# Altium footprint library PcbLib.PcbLib: 43 footprints (part 1 of 3)
Each footprint in its own frame and in the unit in brackets; x right, y up, seen from the top. Pads: shape width x height; smd on the part's side, far side on the other; paste and mask are expansions set on the pad; w line width, h text height; cw(c..) or ccw(c..) is an arc to the next point about the centre after c.
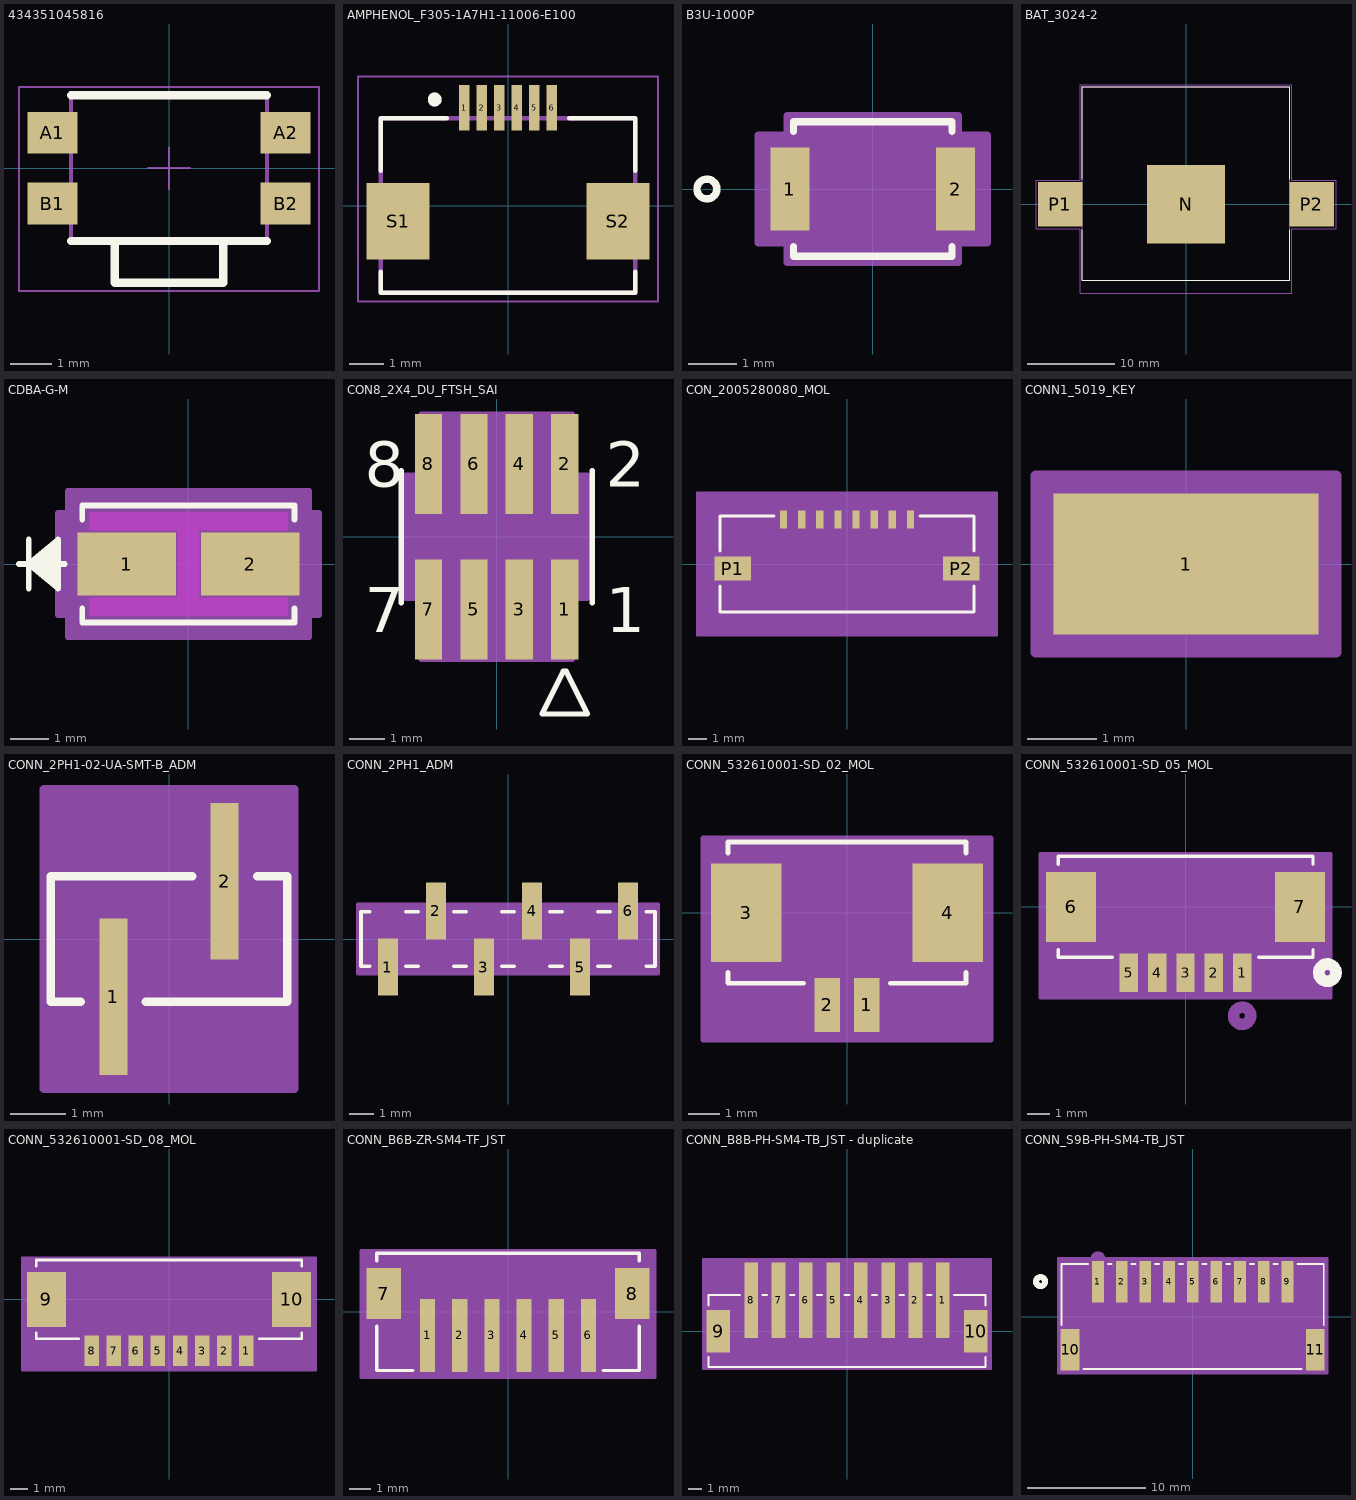
[diagram p0: the footprints below, top view; thin cyan lines are the x and y axes]

## 434351045816 [mm] "3.5x4.7 mm SMD side push"
height 1.65
pads (4):
  rect 1.2x1 smd: A1(-2.8,0.85) A2(2.8,0.85) B1(-2.8,-0.85) B2(2.8,-0.85)
Top Overlay:
  lines w0.2: -2.35,-1.75 2.35,-1.75 ; -2.35,1.75 2.35,1.75 ; -1.3,-1.75 -1.3,-2.75 1.3,-2.75 1.3,-1.75
Top 3D Body:
  lines w0.1: -2.35,-1.15 -3.2,-1.15 -3.2,-0.55 -2.35,-0.55 ; -2.35,0.55 -3.2,0.55 -3.2,1.15 -2.35,1.15 ; -1.3,-1.75 -1.3,-2.75 1.3,-2.75 1.3,-1.75 ; 2.35,-1.15 3.2,-1.15 3.2,-0.55 2.35,-0.55 ; 2.35,0.55 3.2,0.55 3.2,1.15 2.35,1.15 ; -2.35,-1.75 -2.35,1.75 2.35,1.75 2.35,-1.75 -2.35,-1.75
Top Courtyard:
  lines w0.05: -0.5,0 0.5,0 ; 0,-0.5 0,0.5 ; -3.6,-2.95 -3.6,1.95 3.6,1.95 3.6,-2.95 -3.6,-2.95
Top Component Outline:
  lines w0.1: -2.35,-1.15 -3.2,-1.15 -3.2,-0.55 -2.35,-0.55 ; -2.35,0.55 -3.2,0.55 -3.2,1.15 -2.35,1.15 ; -1.3,-1.75 -1.3,-2.75 1.3,-2.75 1.3,-1.75 ; 2.35,-1.15 3.2,-1.15 3.2,-0.55 2.35,-0.55 ; 2.35,0.55 3.2,0.55 3.2,1.15 2.35,1.15 ; -2.35,-1.75 2.35,-1.75 2.35,1.75 -2.35,1.75 -2.35,-1.75
3D body "4343x10458xx.stp": height 1.65, standoff 0, extent -3.2,-2.75 3.2,1.75

## AMPHENOL_F305-1A7H1-11006-E100 [mm]
height 3.95
pads (8):
  rect 0.3x1.3 smd mask+0.05: 1(-1.25,2.8) 2(-0.75,2.8) 3(-0.25,2.8) 4(0.25,2.8) 5(0.75,2.8) 6(1.25,2.8)
  rect 1.8x2.2 smd mask+0.05: S1(-3.15,-0.45) S2(3.15,-0.45)
Top Overlay:
  circle w0.2: c-2.1,3.04 r0.1
  lines w0.127: -3.65,-1.9 -3.65,-2.5 3.65,-2.5 3.65,-1.9 ; -3.65,1 -3.65,2.5 -1.75,2.5 ; 1.75,2.5 3.65,2.5 3.65,1
Mechanical 13:
  circle w0.2: c-2.1,3.04 r0.1
  lines w0.127: -3.65,-2.5 3.65,-2.5 3.65,2.5 -3.65,2.5 -3.65,-2.5
Mechanical 15:
  lines w0.05: -4.3,-2.75 4.3,-2.75 4.3,3.7 -4.3,3.7 -4.3,-2.75
3D body "step_temp.STEP": height 1.95, standoff -0.05, extent -3.579,-2.617 3.721,3.083

## B3U-1000P [mm]
pads (2):
  rect 0.8x1.7 smd paste+0 mask+0: 1(-1.7,0) 2(1.7,0)
Top Overlay:
  circle w0.152: c-3.405,0 r0.203
  lines w0.152: -1.627,-1.183 -1.627,-1.377 1.627,-1.377 1.627,-1.183 ; -1.627,1.183 -1.627,1.377 1.627,1.377 1.627,1.183
Mechanical 13:
  circle w0: c0,0 r0.75
  lines w0.025: -1.7,0 -1.5,0 -1.7,0 ; -1.5,-1.25 1.5,-1.25 1.5,1.25 -1.5,1.25 -1.5,-1.25 ; 1.5,0 1.7,0 1.5,0
Mechanical 15:
  region: -1.754,-1.104 -2.354,-1.104 -2.354,1.104 -1.754,1.104 -1.754,1.504 1.754,1.504 1.754,1.104 2.354,1.104 2.354,-1.104 1.754,-1.104 1.754,-1.504 -1.754,-1.504
  lines w0.152: -2.354,-1.104 -2.354,1.104 -1.754,1.104 -1.754,1.504 1.754,1.504 1.754,1.104 2.354,1.104 2.354,-1.104 1.754,-1.104 1.754,-1.504 -1.754,-1.504 -1.754,-1.104 -2.354,-1.104
3D body "b3u-1000p.stp": height 1.6, standoff 0, extent -2,-1.27 2,1.23

## BAT_3024-2 [mm]
height 6.35
pads (3):
  rect 9x9 smd paste-3: N(0,0)
  rect 5.08x5.08 smd: P1(-14.465,0) P2(14.465,0)
Top Overlay:
  lines w0.127: -11.925,-2.9 -11.925,-8.75 11.925,-8.75 11.925,-2.9 ; -11.925,2.9 -11.925,13.52 11.925,13.52 11.925,2.9
Mechanical 13:
  lines w0.127: -11.925,-8.75 -11.925,13.52 11.925,13.52 11.925,-8.75 -11.925,-8.75
Mechanical 15:
  lines w0.05: -17.255,-2.79 -12.175,-2.79 -12.175,-10.25 12.175,-10.25 12.175,-2.79 17.255,-2.79 17.255,2.79 12.175,2.79 12.175,13.77 -12.175,13.77 -12.175,2.79 -17.255,2.79 -17.255,-2.79

## CDBA-G-M [mil]
pads (2):
  rect 101x65 smd paste+0 mask+0: 1(-63.5,0) 2(63.5,0)
Top Layer keep-out:
  region: -11,-34.5 -11,34.5 11,34.5 11,-34.5
  region: -102,34.5 -102,53 102,53 102,34.5
  region: -102,-53 -102,-34.5 102,-34.5 102,-53
Top Overlay:
  lines w6: -174,0 -127.1,0 ; -164,-25 -164,25 ; -134,-20 -164,0 ; -134,-15 -164,0 ; -134,-10 -164,0 ; -134,-5 -164,0 ; -134,5 -164,0 ; -134,10 -164,0 ; -134,15 -164,0 ; -134,20 -164,0 ; -109,-45.6 -109,-60 109,-60 109,-45.6 ; -109,45.6 -109,60 109,60 109,45.6 ; -164,0 -134,25 -134,-25 -164,0
Keep-Out Layer:
  region: -11,-34.5 -11,34.5 11,34.5 11,-34.5
Mechanical 13:
  lines w1: -174,0 -124,0 ; -164,-25 -164,25 ; -134,-20 -164,0 ; -134,-15 -164,0 ; -134,-10 -164,0 ; -134,-5 -164,0 ; -134,5 -164,0 ; -134,10 -164,0 ; -134,15 -164,0 ; -134,20 -164,0 ; -164,0 -134,25 -134,-25 -164,0 ; -104,-55 104,-55 104,55 -104,55 -104,-55
Mechanical 15:
  region: -124,-52.5 -134,-52.5 -134,52.5 -124,52.5 -124,75 124,75 124,52.5 134,52.5 134,-52.5 124,-52.5 124,-75 -124,-75
  lines w6: -134,-52.5 -134,52.5 -124,52.5 -124,75 124,75 124,52.5 134,52.5 134,-52.5 124,-52.5 124,-75 -124,-75 -124,-52.5 -134,-52.5
3D body "CDBA-G.step": height 92.01, standoff 0, extent -104.02,-55 104.02,55

## CON8_2X4_DU_FTSH_SAI [mil]
pads (8):
  rect 30x110 smd paste+0 mask+0: 1(75,-80) 2(75,80) 3(25,-80) 4(25,80) 5(-25,-80) 6(-25,80) 7(-75,-80) 8(-75,80)
Top Overlay:
  lines w6: -105,-72.5 -105,72.5 ; 73.5,-148.1 50,-195.1 100,-195.1 76.5,-148.1 ; 105,-72.5 105,72.5
  text "2" at 120,55 h50
  text "1" at 120,-105 h50
  text "8" at -145,55 h50
  text "7" at -145,-105 h50
Mechanical 13:
  lines w1: -100,-67.5 100,-67.5 100,67.5 -100,67.5 -100,-67.5 ; 50,-195.1 75,-145.1 100,-195.1 50,-195.1
  text "2" at 120,55 h50
  text "1" at 120,-105 h50
  text "8" at -145,55 h50
  text "7" at -145,-105 h50
Mechanical 15:
  region: -83,-67.5 -100,-67.5 -100,67.5 -83,67.5 -83,135 83,135 83,67.5 100,67.5 100,-67.5 83,-67.5 83,-135 -83,-135
  region: 100,-67.5 -100,-67.5 -100,67.5 100,67.5
  lines w6: -100,-67.5 -100,67.5 -83,67.5 -83,135 83,135 83,67.5 100,67.5 100,-67.5 83,-67.5 83,-135 -83,-135 -83,-67.5 -100,-67.5
3D body "CON8_2X4_DU_FTSH_SAI.step": height 235, standoff 0, extent -100,-122.99 100,122.99

## CON_2005280080_MOL [mm]
pads (10):
  rect 0.4x1 smd paste+0 mask+0.025: 1(-3.5,2.45) 2(-2.5,2.45) 3(-1.5,2.45) 4(-0.5,2.45) 5(0.5,2.45) 6(1.5,2.45) 7(2.5,2.45) 8(3.5,2.45)
  rect 2x1.3 smd paste+0 mask+0.025: P1(-6.3,-0.25) P2(6.3,-0.25)
Top Overlay:
  lines w0.152: -7,-1.22 -7,-2.65 7,-2.65 7,-1.22 ; -7,0.72 -7,2.65 -4.02,2.65 ; 4.02,2.65 7,2.65 7,0.72
Mechanical 13:
  lines w0.127: -7,-2.65 7,-2.65 7,2.65 -7,2.65 -7,-2.65
Mechanical 15:
  region: 8.27,3.92 -8.27,3.92 -8.27,-3.92 8.27,-3.92
  lines w0.127: -8.27,-3.92 -8.27,3.92 8.27,3.92 8.27,-3.92 -8.27,-3.92

## CONN1_5019_KEY [mil]
pads (1):
  rect 150x80 smd paste+0 mask+0: 1(0,0)
Mechanical 13:
  lines w1: -75,-40 -75,40 75,40 75,-40 -75,-40
Mechanical 15:
  region: 85,50 -85,50 -85,-50 85,-50
  lines w6: -85,-50 85,-50 85,50 -85,50 -85,-50

## CONN_2PH1-02-UA-SMT-B_ADM [mil]
pads (2):
  rect 20x111 smd paste+0 mask+0: 1(-39.5,-41) 2(39.5,41)
Top Overlay:
  lines w6: -62.6,-44.5 -84,-44.5 -84,44.5 16.4,44.5 ; -16.4,-44.5 84,-44.5 84,44.5 62.6,44.5
Mechanical 13:
  lines w1: -79,-39.5 79,-39.5 79,39.5 -79,39.5 -79,-39.5
Mechanical 15:
  region: 89,-106.5 89,106.5 -89,106.5 -89,-106.5
  lines w6: -89,-106.5 -89,106.5 89,106.5 89,-106.5 -89,-106.5
3D body "CONN_2PH1-02-UA-SMT-B_ADM.step": height 262.99, standoff 0, extent -79.02,-82.99 79.02,82.99

## CONN_2PH1_ADM [mil]
pads (6):
  rect 33x93 smd paste+0 mask+0: 1(-196.85,-46) 2(-118.11,46) 3(-39.37,-46) 4(39.37,46) 5(118.11,-46) 6(196.85,46)
Top Overlay:
  lines w6: -226.45,-44.5 -241,-44.5 -241,44.5 -226.45,44.5 ; -167.25,-44.5 -147.71,-44.5 ; -167.25,44.5 -147.71,44.5 ; -88.51,-44.5 -68.97,-44.5 ; -88.51,44.5 -68.97,44.5 ; -9.77,-44.5 9.77,-44.5 ; -9.77,44.5 9.77,44.5 ; 68.97,-44.5 88.51,-44.5 ; 68.97,44.5 88.51,44.5 ; 147.71,-44.5 167.25,-44.5 ; 147.71,44.5 167.25,44.5 ; 226.45,-44.5 241,-44.5 241,44.5 226.45,44.5
Mechanical 13:
  lines w1: -236,-39.5 236,-39.5 236,39.5 -236,39.5 -236,-39.5
Mechanical 15:
  region: 246,56.5 -246,56.5 -246,-56.5 246,-56.5
  lines w6: -246,-56.5 -246,56.5 246,56.5 246,-56.5 -246,-56.5

## CONN_532610001-SD_02_MOL [mil]
pads (4):
  rect 32x67 smd paste+0 mask+0: 1(24.61,-114.35) 2(-24.61,-114.35)
  rect 87x122 smd paste-61 mask-61: 3(-125,-0.18) 4(125,-0.18)
Top Overlay:
  lines w6: -147.5,-74.28 -147.5,-87.5 -53.71,-87.5 ; -147.5,73.92 -147.5,87.5 147.5,87.5 147.5,73.92 ; 53.71,-87.5 147.5,-87.5 147.5,-74.28
Mechanical 13:
  lines w1: -142.5,-82.5 142.5,-82.5 142.5,82.5 -142.5,82.5 -142.5,-82.5
Mechanical 15:
  region: 178.5,92.5 -178.5,92.5 -178.5,-157.85 178.5,-157.85
  lines w6: -178.5,-157.85 -178.5,92.5 178.5,92.5 178.5,-157.85 -178.5,-157.85

## CONN_532610001-SD_05_MOL [mil]
pads (7):
  rect 32x67 smd paste+0 mask+0: 1(98.43,-114.35) 2(49.21,-114.35) 3(0,-114.35) 4(-49.21,-114.35) 5(-98.43,-114.35)
  rect 87x122 smd paste-61 mask-61: 6(-198.82,-0.18) 7(198.82,-0.18)
Top Overlay:
  circle w20: c246.5,-114.35 r15
  lines w6: -221.5,-74.28 -221.5,-87.5 -127.53,-87.5 ; -221.5,73.92 -221.5,87.5 221.5,87.5 221.5,73.92 ; 127.53,-87.5 221.5,-87.5 221.5,-74.28
Bottom Overlay:
  circle w20: c246.5,-114.35 r15
Mechanical 13:
  circle w20: c98.43,-189.35 r15
  lines w1: -216.5,-82.5 -216.5,82.5 216.5,82.5 216.5,-82.5 -216.5,-82.5
Mechanical 15:
  region: 252.32,92.5 -252.32,92.5 -252.32,-157.85 252.32,-157.85
  lines w6: -252.32,-157.85 252.32,-157.85 252.32,92.5 -252.32,92.5 -252.32,-157.85
3D body "0532610571.stp": height 125.98, standoff -7.87, extent -224.8,-129.13 224.02,75.59

## CONN_532610001-SD_08_MOL [mil]
pads (10):
  rect 32x67 smd paste+0 mask+0: 1(172.24,-114.35) 2(123.03,-114.35) 3(73.82,-114.35) 4(24.61,-114.35) 5(-24.61,-114.35) 6(-73.82,-114.35) 7(-123.03,-114.35) 8(-172.24,-114.35)
  rect 87x122 smd paste-61 mask-61: 9(-272.64,-0.18) 10(272.64,-0.18)
Top Overlay:
  lines w6: -295.5,-74.28 -295.5,-87.5 -201.34,-87.5 ; -295.5,73.92 -295.5,87.5 295.5,87.5 295.5,73.92 ; 201.34,-87.5 295.5,-87.5 295.5,-74.28
Mechanical 13:
  lines w1: -290.5,-82.5 -290.5,82.5 290.5,82.5 290.5,-82.5 -290.5,-82.5
Mechanical 15:
  region: 326.14,92.5 -326.14,92.5 -326.14,-157.85 326.14,-157.85
  lines w6: -326.14,-157.85 326.14,-157.85 326.14,92.5 -326.14,92.5 -326.14,-157.85
3D body "532610871.stp": height 125.98, standoff -7.87, extent -299.8,-128.74 296.65,75.98

## CONN_B6B-ZR-SM4-TF_JST [mil]
pads (8):
  rect 28x134 smd paste+0 mask+0: 1(-147.64,-43.17) 2(-88.58,-43.17) 3(-29.53,-43.17) 4(29.53,-43.17) 5(88.58,-43.17) 6(147.64,-43.17)
  rect 63x94 smd paste+0 mask+0: 7(-228.35,33.6) 8(228.35,33.6)
Top Overlay:
  lines w6: -241,-26.5 -241,-107.5 -174.74,-107.5 ; -241,93.7 -241,107.5 241,107.5 241,93.7 ; 174.74,-107.5 241,-107.5 241,-26.5
Mechanical 13:
  lines w1: -236,-102.5 -236,102.5 236,102.5 236,-102.5 -236,-102.5
Mechanical 15:
  region: 269.85,112.5 -269.85,112.5 -269.85,-120.17 269.85,-120.17
  lines w6: -269.85,-120.17 269.85,-120.17 269.85,112.5 -269.85,112.5 -269.85,-120.17

## CONN_B8B-PH-SM4-TB_JST - duplicate [mil]
pads (10):
  rect 39x217 smd paste+0 mask+0: 1(275.59,88.66) 2(196.85,88.66) 3(118.11,88.66) 4(39.37,88.66) 5(-39.37,88.66) 6(-118.11,88.66) 7(-196.85,88.66) 8(-275.59,88.66)
  rect 67x122 smd paste+0 mask+0: 9(-370.08,0) 10(370.08,0)
Top Overlay:
  lines w6: -397.5,-74.03 -397.5,-103.5 397.5,-103.5 397.5,-74.03 ; -397.5,74.17 -397.5,103.5 -308.19,103.5 ; -242.99,103.5 -229.45,103.5 ; -164.25,103.5 -150.71,103.5 ; -85.51,103.5 -71.97,103.5 ; -6.77,103.5 6.77,103.5 ; 71.97,103.5 85.51,103.5 ; 150.71,103.5 164.25,103.5 ; 229.45,103.5 242.99,103.5 ; 308.19,103.5 397.5,103.5 397.5,74.17
Mechanical 13:
  circle w20: c275.59,163.66 r15
  lines w1: -392.5,-98.5 -392.5,98.5 392.5,98.5 392.5,-98.5 -392.5,-98.5
Mechanical 15:
  region: 413.58,207.16 -413.58,207.16 -413.58,-108.5 413.58,-108.5
  lines w6: -413.58,-108.5 413.58,-108.5 413.58,207.16 -413.58,207.16 -413.58,-108.5

## CONN_S9B-PH-SM4-TB_JST [mil]
pads (11):
  rect 39x138 smd paste+0 mask+0: 1(-314.96,116.35) 2(-236.22,116.35) 3(-157.48,116.35) 4(-78.74,116.35) 5(0,116.35) 6(78.74,116.35) 7(157.48,116.35) 8(236.22,116.35) 9(314.96,116.35)
  rect 63x138 smd paste-69 mask-69: 10(-407.48,-110.03) 11(407.48,-110.03)
Top Overlay:
  circle w20: c-506,116.35 r15
  lines w6: -436,-27.93 -436,174.5 -347.56,174.5 ; -362.88,-174.5 362.88,-174.5 ; -282.36,174.5 -268.82,174.5 ; -203.62,174.5 -190.08,174.5 ; -124.88,174.5 -111.34,174.5 ; -46.14,174.5 -32.6,174.5 ; 32.6,174.5 46.14,174.5 ; 111.34,174.5 124.88,174.5 ; 190.08,174.5 203.62,174.5 ; 268.82,174.5 282.36,174.5 ; 347.56,174.5 436,174.5 436,-27.93
Bottom Overlay:
  circle w20: c-506,116.35 r15
Mechanical 13:
  circle w20: c-314.96,191.35 r15
  lines w1: -431,-169.5 -431,169.5 431,169.5 431,-169.5 -431,-169.5
Mechanical 15:
  region: 448.98,195.35 -448.98,195.35 -448.98,-189.03 448.98,-189.03
  lines w6: -448.98,-189.03 448.98,-189.03 448.98,195.35 -448.98,195.35 -448.98,-189.03